# Altium footprint library to-252-3.PcbLib: 1 footprints
Each footprint in its own frame and in the unit in brackets; x right, y up, seen from the top. Pads: shape width x height; smd on the part's side, far side on the other; paste and mask are expansions set on the pad; w line width, h text height; cw(c..) or ccw(c..) is an arc to the next point about the centre after c.
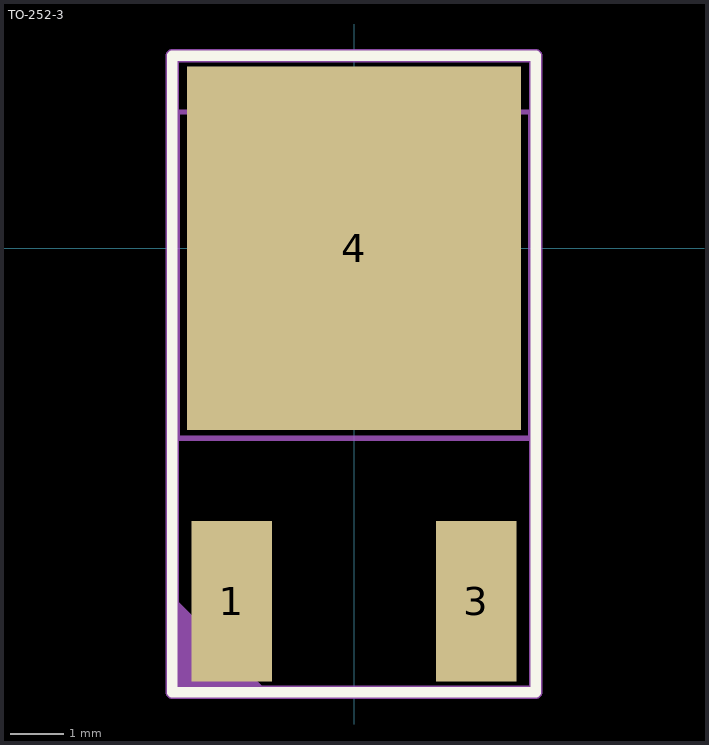
[diagram p0: the footprint, top view; thin cyan lines are the x and y axes]

## TO-252-3 [mm]
height 2.4
pads (3):
  rect 1.5x3 smd: 1(-2.286,-6.6) 3(2.286,-6.6)
  rect 6.25x6.8 smd: 4(0,0)
Top Overlay:
  lines w0.2: -3.4,-8.3 3.4,-8.3 3.4,3.6 -3.4,3.6 -3.4,-8.3
Top 3D Body:
  lines w0.1: -3.3,-3.55 3.3,-3.55 3.3,2.55 -3.3,2.55 -3.3,-3.55
Top Courtyard:
  region: -3.4,-8.3 -3.4,-6.5 -1.6,-8.3
  lines w0.254: -3.4,-8.3 3.4,-8.3 3.4,3.6 -3.4,3.6 -3.4,-8.3
Top Designator (Mech17):
  text ".Designator" at 0.358,-3.897 h1.02
3D body "TO-252-3.step": height 2.51, standoff 0.01, extent -3.3,-7.35 3.3,2.55